# Altium schematic symbol library Schlib1.SchLib: 2 symbols
Pins are listed as number, name and electrical type; pins without a type are passive.

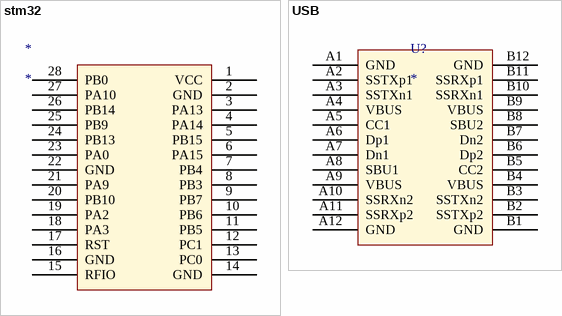
[diagram p0: symbols stm32 to USB]

## stm32
designator *
footprint QFN127P600-8N
pins: 1 VCC, 2 GND, 3 PA13, 4 PA14, 5 PB15, 6 PA15, 7 PB4, 8 PB3, 9 PB7, 10 PB6, 11 PB5, 12 PC1, 13 PC0, 14 GND, 15 RFIO, 16 GND, 17 RST, 18 PA3, 19 PA2, 20 PB10, 21 PA9, 22 GND, 23 PA0, 24 PB13, 25 PB9, 26 PB14, 27 PA10, 28 PB0

## USB
designator U?
footprint USB
pins: A1 GND, A2 SSTXp1, A3 SSTXn1, A4 VBUS, A5 CC1, A6 Dp1, A7 Dn1, A8 SBU1, A9 VBUS, A10 SSRXn2, A11 SSRXp2, A12 GND, B1 GND, B2 SSTXp2, B3 SSTXn2, B4 VBUS, B5 CC2, B6 Dp2, B7 Dn2, B8 SBU2, B9 VBUS, B10 SSRXn1, B11 SSRXp1, B12 GND